# Altium integrated library Linear Technology Operational Amplifiers (LT1000).IntLib: 2280 symbols (part 69 of 79)
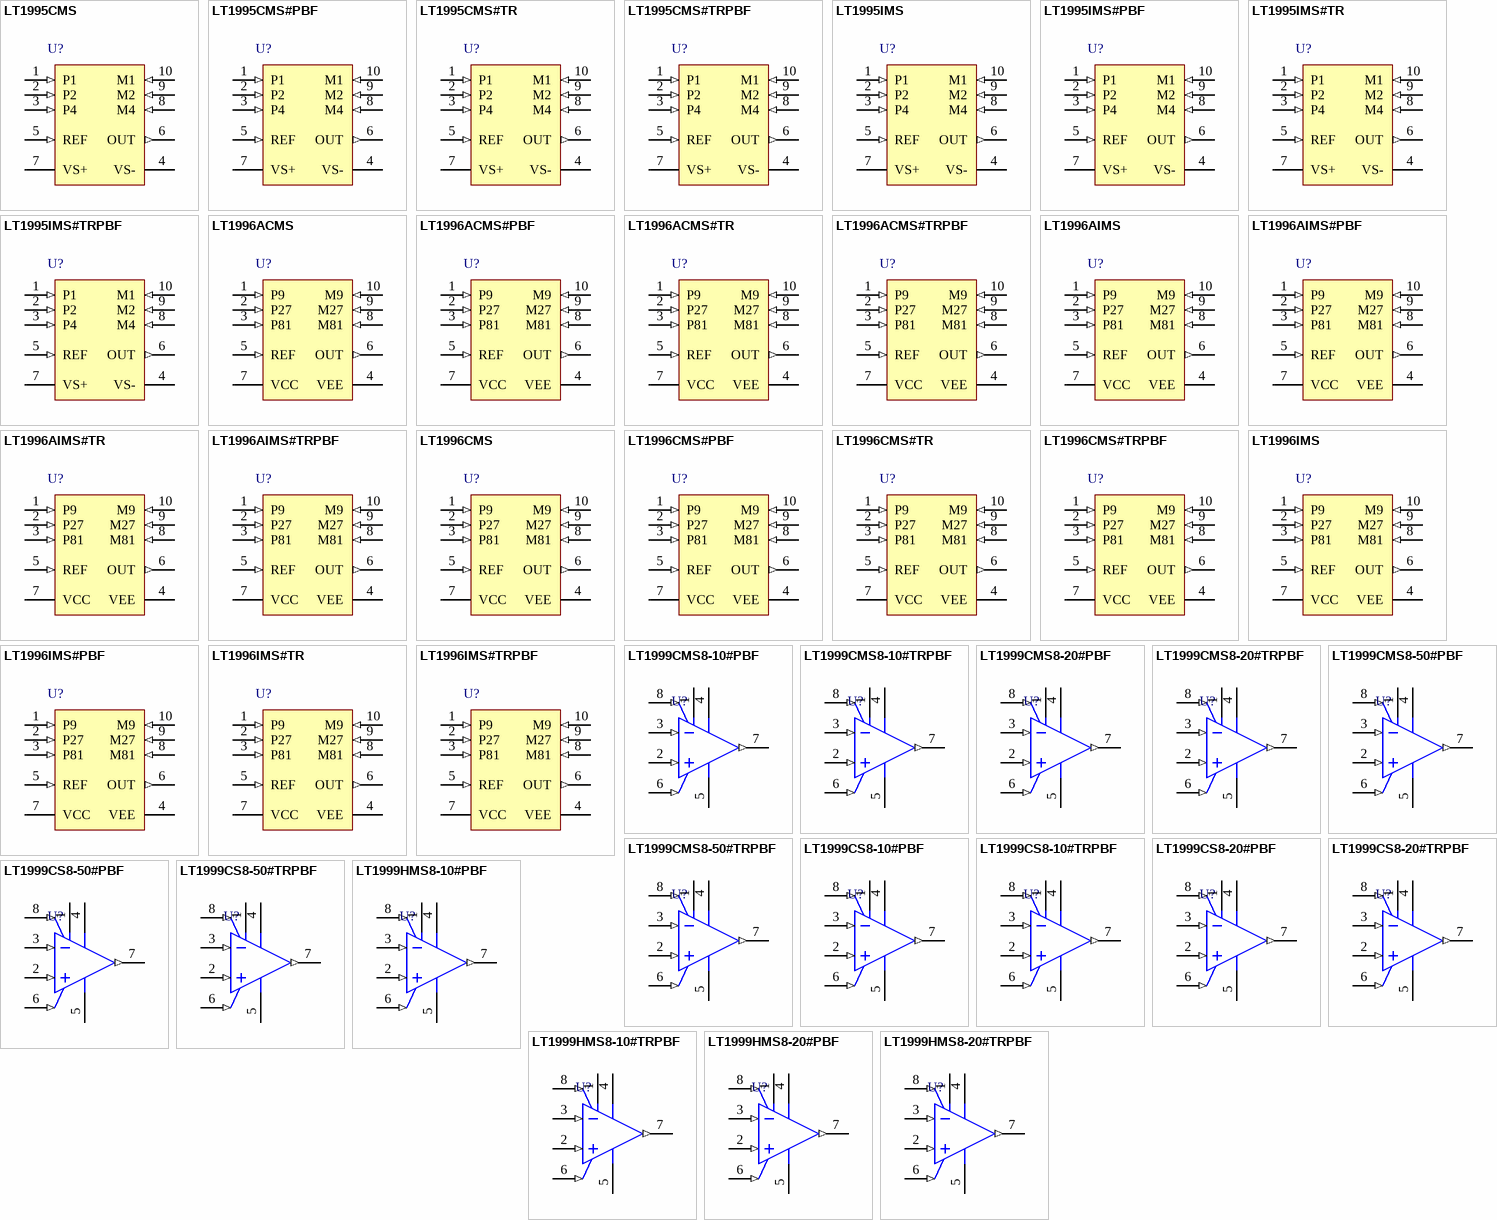
[diagram p173: symbols LT1995CMS to LT1999HMS8-20#TRPBF]

## LT1995CMS#PBF
designator U?
Single Channel, Fast Differential Amplifier Integrated Resistors, 24 MHz Typical GBW, 1000 V/us Typical SR, 2.5 to 36 V, 10-Pin SOP (MS-10), Commercial, Pb-Free; Linear Technology Part Number: LT1995; Manufacturer: Linear Technology; PartNumber: LT1995CMS#PBF; Channels (#): 1; GBW (MHz) Typical: 24; Is (mA) Typical: 6.7; SR (V/us) Typical: 1000; Vos (mV) Guaranteed: 5; Vs Max (V): 36; Vs Min (V): 2.5; DatasheetVersion: Rev. B; PackageVersion: Rev E; PackageReference: LT-MS-10; PackageDescription: 10-Lead Plastic MSOP, Body 3 x 3 mm, Pitch 0.5 mm; Supplier 1: Digi-Key; Supplier Part Number 1: LT1995CMS#PBF-ND; Supplier 2: Farnell; Supplier Part Number 2: 1330737; Supplier 3: Newark; Supplier Part Number 3: 57M7755; RoHS: Pb-Free; Type: SGA; Vos (mV) Typical: 1; Mounting Technology: Surface Mount; ComponentLink1Description: Manufacturer URL; ComponentLink1URL: http://www.linear.com/; ComponentLink2Description: Datasheet; ComponentLink2URL: http://cds.linear.com/docs/en/datasheet/1995fb.pdf; ComponentLink3Description: Package Specification; ComponentLink3URL: http://cds.linear.com/docs/en/packaging/MSOP_10_05-08-1661.pdf
footprint LT-MS-10_N (SOP, 10-Leads, Body 3x3mm, Pitch 0.50mm, IPC Medium Density)
footprint LT-MS-10_L (SOP, 10-Leads, Body 3x3mm, Pitch 0.50mm, IPC High Density)
footprint LT-MS-10_M (SOP, 10-Leads, Body 3x3mm, Pitch 0.50mm, IPC Low Density)
pins: 1 P1 (in) "Noninverting Gain-of-1 Input. Connects a 4k internal resistor to the op amp’s noninverting input.", 2 P2 (in) "Noninverting Gain-of-2 Input. Connects a 2k internal resistor to the op amp’s noninverting input.", 3 P4 (in) "Noninverting Gain-of-4 Input. Connects a 1k internal resistor to the op amp’s noninverting input.", 4 VS- (power) "Negative Supply Voltage.", 5 REF (in) "Reference Voltage. Sets the output level when the difference between the inputs is zero. Connects a 4k internal resistor to the op amp’s non inverting input.", 6 OUT (out) "Output Voltage. VOUT = VREF + 1 • (VP1 - VM1) + 2 • (VP2 - VM2) + 4 • (VP4 - VM4).", 7 VS+ (power) "Positive Supply Voltage.", 8 M4 (in) "Inverting Gain-of-4 Input. Connects a 1k internal resistor to the op amp’s inverting input.", 9 M2 (in) "Inverting Gain-of-2 Input. Connects a 2k internal resistor to the op amp’s inverting input.", 10 M1 (in) "Inverting Gain-of-1 Input. Connects a 4k internal resistor to the op amp’s inverting input."

## LT1995CMS#TR
designator U?
Single Channel, Fast Differential Amplifier, Integrated Resistors, 24 MHz Typical GBW, 1000 V/us Typical SR, 2.5 to 36 V, 10-Pin SOP (MS-10), Commercial, Reel; Linear Technology Part Number: LT1995; Manufacturer: Linear Technology; PartNumber: LT1995CMS#TR; Channels (#): 1; GBW (MHz) Typical: 24; Is (mA) Typical: 6.7; SR (V/us) Typical: 1000; Vos (mV) Guaranteed: 5; Vs Max (V): 36; Vs Min (V): 2.5; DatasheetVersion: Rev. B; PackageVersion: Rev E; PackageReference: LT-MS-10; PackageDescription: 10-Lead Plastic MSOP, Body 3 x 3 mm, Pitch 0.5 mm; Supplier 1: Digi-Key; Supplier Part Number 1: LT1995CMS#TR-ND; Packing: Reel; Type: SGA; Vos (mV) Typical: 1; Mounting Technology: Surface Mount; ComponentLink1Description: Manufacturer URL; ComponentLink1URL: http://www.linear.com/; ComponentLink2Description: Datasheet; ComponentLink2URL: http://cds.linear.com/docs/en/datasheet/1995fb.pdf; ComponentLink3Description: Package Specification; ComponentLink3URL: http://cds.linear.com/docs/en/packaging/MSOP_10_05-08-1661.pdf
footprint LT-MS-10_N (SOP, 10-Leads, Body 3x3mm, Pitch 0.50mm, IPC Medium Density)
footprint LT-MS-10_L (SOP, 10-Leads, Body 3x3mm, Pitch 0.50mm, IPC High Density)
footprint LT-MS-10_M (SOP, 10-Leads, Body 3x3mm, Pitch 0.50mm, IPC Low Density)
pins: 1 P1 (in) "Noninverting Gain-of-1 Input. Connects a 4k internal resistor to the op amp’s noninverting input.", 2 P2 (in) "Noninverting Gain-of-2 Input. Connects a 2k internal resistor to the op amp’s noninverting input.", 3 P4 (in) "Noninverting Gain-of-4 Input. Connects a 1k internal resistor to the op amp’s noninverting input.", 4 VS- (power) "Negative Supply Voltage.", 5 REF (in) "Reference Voltage. Sets the output level when the difference between the inputs is zero. Connects a 4k internal resistor to the op amp’s non inverting input.", 6 OUT (out) "Output Voltage. VOUT = VREF + 1 • (VP1 - VM1) + 2 • (VP2 - VM2) + 4 • (VP4 - VM4).", 7 VS+ (power) "Positive Supply Voltage.", 8 M4 (in) "Inverting Gain-of-4 Input. Connects a 1k internal resistor to the op amp’s inverting input.", 9 M2 (in) "Inverting Gain-of-2 Input. Connects a 2k internal resistor to the op amp’s inverting input.", 10 M1 (in) "Inverting Gain-of-1 Input. Connects a 4k internal resistor to the op amp’s inverting input."

## LT1995CMS#TRPBF
designator U?
Single Channel, Fast Differential Amplifier Integrated Resistors, 24 MHz Typical GBW, 1000 V/us Typical SR, 2.5 to 36 V, 10-Pin SOP (MS-10), Commercial, Pb-Free, Reel; Linear Technology Part Number: LT1995; Manufacturer: Linear Technology; PartNumber: LT1995CMS#TRPBF; Channels (#): 1; GBW (MHz) Typical: 24; Is (mA) Typical: 6.7; SR (V/us) Typical: 1000; Vos (mV) Guaranteed: 5; Vs Max (V): 36; Vs Min (V): 2.5; DatasheetVersion: Rev. B; PackageVersion: Rev E; PackageReference: LT-MS-10; PackageDescription: 10-Lead Plastic MSOP, Body 3 x 3 mm, Pitch 0.5 mm; Supplier 1: Digi-Key; Supplier Part Number 1: LT1995CMS#TRPBF-ND; Packing: Reel; RoHS: Pb-Free; Type: SGA; Vos (mV) Typical: 1; Mounting Technology: Surface Mount; ComponentLink1Description: Manufacturer URL; ComponentLink1URL: http://www.linear.com/; ComponentLink2Description: Datasheet; ComponentLink2URL: http://cds.linear.com/docs/en/datasheet/1995fb.pdf; ComponentLink3Description: Package Specification; ComponentLink3URL: http://cds.linear.com/docs/en/packaging/MSOP_10_05-08-1661.pdf
footprint LT-MS-10_N (SOP, 10-Leads, Body 3x3mm, Pitch 0.50mm, IPC Medium Density)
footprint LT-MS-10_L (SOP, 10-Leads, Body 3x3mm, Pitch 0.50mm, IPC High Density)
footprint LT-MS-10_M (SOP, 10-Leads, Body 3x3mm, Pitch 0.50mm, IPC Low Density)
pins: 1 P1 (in) "Noninverting Gain-of-1 Input. Connects a 4k internal resistor to the op amp’s noninverting input.", 2 P2 (in) "Noninverting Gain-of-2 Input. Connects a 2k internal resistor to the op amp’s noninverting input.", 3 P4 (in) "Noninverting Gain-of-4 Input. Connects a 1k internal resistor to the op amp’s noninverting input.", 4 VS- (power) "Negative Supply Voltage.", 5 REF (in) "Reference Voltage. Sets the output level when the difference between the inputs is zero. Connects a 4k internal resistor to the op amp’s non inverting input.", 6 OUT (out) "Output Voltage. VOUT = VREF + 1 • (VP1 - VM1) + 2 • (VP2 - VM2) + 4 • (VP4 - VM4).", 7 VS+ (power) "Positive Supply Voltage.", 8 M4 (in) "Inverting Gain-of-4 Input. Connects a 1k internal resistor to the op amp’s inverting input.", 9 M2 (in) "Inverting Gain-of-2 Input. Connects a 2k internal resistor to the op amp’s inverting input.", 10 M1 (in) "Inverting Gain-of-1 Input. Connects a 4k internal resistor to the op amp’s inverting input."

## LT1995IMS
designator U?
Single Channel, Fast Differential Amplifier, Integrated Resistors, 24 MHz Typical GBW, 1000 V/us Typical SR, 2.5 to 36 V, 10-Pin SOP (MS-10), Industrial; Linear Technology Part Number: LT1995; Manufacturer: Linear Technology; PartNumber: LT1995IMS; Channels (#): 1; GBW (MHz) Typical: 24; Is (mA) Typical: 6.7; SR (V/us) Typical: 1000; Vos (mV) Guaranteed: 5; Vs Max (V): 36; Vs Min (V): 2.5; DatasheetVersion: Rev. B; PackageVersion: Rev E; PackageReference: LT-MS-10; PackageDescription: 10-Lead Plastic MSOP, Body 3 x 3 mm, Pitch 0.5 mm; Supplier 1: Digi-Key; Supplier Part Number 1: LT1995IMS-ND; Supplier 2: Newark; Supplier Part Number 2: 57M7762; Type: SGA; Vos (mV) Typical: 1; Mounting Technology: Surface Mount; ComponentLink1Description: Manufacturer URL; ComponentLink1URL: http://www.linear.com/; ComponentLink2Description: Datasheet; ComponentLink2URL: http://cds.linear.com/docs/en/datasheet/1995fb.pdf; ComponentLink3Description: Package Specification; ComponentLink3URL: http://cds.linear.com/docs/en/packaging/MSOP_10_05-08-1661.pdf
footprint LT-MS-10_N (SOP, 10-Leads, Body 3x3mm, Pitch 0.50mm, IPC Medium Density)
footprint LT-MS-10_L (SOP, 10-Leads, Body 3x3mm, Pitch 0.50mm, IPC High Density)
footprint LT-MS-10_M (SOP, 10-Leads, Body 3x3mm, Pitch 0.50mm, IPC Low Density)
pins: 1 P1 (in) "Noninverting Gain-of-1 Input. Connects a 4k internal resistor to the op amp’s noninverting input.", 2 P2 (in) "Noninverting Gain-of-2 Input. Connects a 2k internal resistor to the op amp’s noninverting input.", 3 P4 (in) "Noninverting Gain-of-4 Input. Connects a 1k internal resistor to the op amp’s noninverting input.", 4 VS- (power) "Negative Supply Voltage.", 5 REF (in) "Reference Voltage. Sets the output level when the difference between the inputs is zero. Connects a 4k internal resistor to the op amp’s non inverting input.", 6 OUT (out) "Output Voltage. VOUT = VREF + 1 • (VP1 - VM1) + 2 • (VP2 - VM2) + 4 • (VP4 - VM4).", 7 VS+ (power) "Positive Supply Voltage.", 8 M4 (in) "Inverting Gain-of-4 Input. Connects a 1k internal resistor to the op amp’s inverting input.", 9 M2 (in) "Inverting Gain-of-2 Input. Connects a 2k internal resistor to the op amp’s inverting input.", 10 M1 (in) "Inverting Gain-of-1 Input. Connects a 4k internal resistor to the op amp’s inverting input."

## LT1995IMS#PBF
designator U?
Single Channel, Fast Differential Amplifier, Integrated Resistors, 24 MHz Typical GBW, 1000 V/us Typical SR, 2.5 to 36 V, 10-Pin SOP (MS-10), Industrial, Pb-Free; Linear Technology Part Number: LT1995; Manufacturer: Linear Technology; PartNumber: LT1995IMS#PBF; Channels (#): 1; GBW (MHz) Typical: 24; Is (mA) Typical: 6.7; SR (V/us) Typical: 1000; Vos (mV) Guaranteed: 5; Vs Max (V): 36; Vs Min (V): 2.5; DatasheetVersion: Rev. B; PackageVersion: Rev E; PackageReference: LT-MS-10; PackageDescription: 10-Lead Plastic MSOP, Body 3 x 3 mm, Pitch 0.5 mm; Supplier 1: Digi-Key; Supplier Part Number 1: LT1995IMS#PBF-ND; Supplier 2: Farnell; Supplier Part Number 2: 2289434; Supplier 3: Newark; Supplier Part Number 3: 57M7763; RoHS: Pb-Free; Type: SGA; Vos (mV) Typical: 1; Mounting Technology: Surface Mount; ComponentLink1Description: Manufacturer URL; ComponentLink1URL: http://www.linear.com/; ComponentLink2Description: Datasheet; ComponentLink2URL: http://cds.linear.com/docs/en/datasheet/1995fb.pdf; ComponentLink3Description: Package Specification; ComponentLink3URL: http://cds.linear.com/docs/en/packaging/MSOP_10_05-08-1661.pdf
footprint LT-MS-10_N (SOP, 10-Leads, Body 3x3mm, Pitch 0.50mm, IPC Medium Density)
footprint LT-MS-10_L (SOP, 10-Leads, Body 3x3mm, Pitch 0.50mm, IPC High Density)
footprint LT-MS-10_M (SOP, 10-Leads, Body 3x3mm, Pitch 0.50mm, IPC Low Density)
pins: 1 P1 (in) "Noninverting Gain-of-1 Input. Connects a 4k internal resistor to the op amp’s noninverting input.", 2 P2 (in) "Noninverting Gain-of-2 Input. Connects a 2k internal resistor to the op amp’s noninverting input.", 3 P4 (in) "Noninverting Gain-of-4 Input. Connects a 1k internal resistor to the op amp’s noninverting input.", 4 VS- (power) "Negative Supply Voltage.", 5 REF (in) "Reference Voltage. Sets the output level when the difference between the inputs is zero. Connects a 4k internal resistor to the op amp’s non inverting input.", 6 OUT (out) "Output Voltage. VOUT = VREF + 1 • (VP1 - VM1) + 2 • (VP2 - VM2) + 4 • (VP4 - VM4).", 7 VS+ (power) "Positive Supply Voltage.", 8 M4 (in) "Inverting Gain-of-4 Input. Connects a 1k internal resistor to the op amp’s inverting input.", 9 M2 (in) "Inverting Gain-of-2 Input. Connects a 2k internal resistor to the op amp’s inverting input.", 10 M1 (in) "Inverting Gain-of-1 Input. Connects a 4k internal resistor to the op amp’s inverting input."

## LT1995IMS#TR
designator U?
Single Channel, Fast Differential Amplifier, Integrated Resistors, 24 MHz Typical GBW, 1000 V/us Typical SR, 2.5 to 36 V, 10-Pin SOP (MS-10), Industrial, Reel; Linear Technology Part Number: LT1995; Manufacturer: Linear Technology; PartNumber: LT1995IMS#TR; Channels (#): 1; GBW (MHz) Typical: 24; Is (mA) Typical: 6.7; SR (V/us) Typical: 1000; Vos (mV) Guaranteed: 5; Vs Max (V): 36; Vs Min (V): 2.5; DatasheetVersion: Rev. B; PackageVersion: Rev E; PackageReference: LT-MS-10; PackageDescription: 10-Lead Plastic MSOP, Body 3 x 3 mm, Pitch 0.5 mm; Supplier 1: Digi-Key; Supplier Part Number 1: LT1995IMS#TR-ND; Packing: Reel; Type: SGA; Vos (mV) Typical: 1; Mounting Technology: Surface Mount; ComponentLink1Description: Manufacturer URL; ComponentLink1URL: http://www.linear.com/; ComponentLink2Description: Datasheet; ComponentLink2URL: http://cds.linear.com/docs/en/datasheet/1995fb.pdf; ComponentLink3Description: Package Specification; ComponentLink3URL: http://cds.linear.com/docs/en/packaging/MSOP_10_05-08-1661.pdf
footprint LT-MS-10_N (SOP, 10-Leads, Body 3x3mm, Pitch 0.50mm, IPC Medium Density)
footprint LT-MS-10_L (SOP, 10-Leads, Body 3x3mm, Pitch 0.50mm, IPC High Density)
footprint LT-MS-10_M (SOP, 10-Leads, Body 3x3mm, Pitch 0.50mm, IPC Low Density)
pins: 1 P1 (in) "Noninverting Gain-of-1 Input. Connects a 4k internal resistor to the op amp’s noninverting input.", 2 P2 (in) "Noninverting Gain-of-2 Input. Connects a 2k internal resistor to the op amp’s noninverting input.", 3 P4 (in) "Noninverting Gain-of-4 Input. Connects a 1k internal resistor to the op amp’s noninverting input.", 4 VS- (power) "Negative Supply Voltage.", 5 REF (in) "Reference Voltage. Sets the output level when the difference between the inputs is zero. Connects a 4k internal resistor to the op amp’s non inverting input.", 6 OUT (out) "Output Voltage. VOUT = VREF + 1 • (VP1 - VM1) + 2 • (VP2 - VM2) + 4 • (VP4 - VM4).", 7 VS+ (power) "Positive Supply Voltage.", 8 M4 (in) "Inverting Gain-of-4 Input. Connects a 1k internal resistor to the op amp’s inverting input.", 9 M2 (in) "Inverting Gain-of-2 Input. Connects a 2k internal resistor to the op amp’s inverting input.", 10 M1 (in) "Inverting Gain-of-1 Input. Connects a 4k internal resistor to the op amp’s inverting input."

## LT1995IMS#TRPBF
designator U?
Single Channel, Fast Differential Amplifier, Integrated Resistors, 24 MHz Typical GBW, 1000 V/us Typical SR, 2.5 to 36 V, 10-Pin SOP (MS-10), Industrial, Pb-Free, Reel; Linear Technology Part Number: LT1995; Manufacturer: Linear Technology; PartNumber: LT1995IMS#TRPBF; Channels (#): 1; GBW (MHz) Typical: 24; Is (mA) Typical: 6.7; SR (V/us) Typical: 1000; Vos (mV) Guaranteed: 5; Vs Max (V): 36; Vs Min (V): 2.5; DatasheetVersion: Rev. B; PackageVersion: Rev E; PackageReference: LT-MS-10; PackageDescription: 10-Lead Plastic MSOP, Body 3 x 3 mm, Pitch 0.5 mm; Supplier 1: Digi-Key; Supplier Part Number 1: LT1995IMS#TRPBF-ND; Packing: Reel; RoHS: Pb-Free; Type: SGA; Vos (mV) Typical: 1; Mounting Technology: Surface Mount; ComponentLink1Description: Manufacturer URL; ComponentLink1URL: http://www.linear.com/; ComponentLink2Description: Datasheet; ComponentLink2URL: http://cds.linear.com/docs/en/datasheet/1995fb.pdf; ComponentLink3Description: Package Specification; ComponentLink3URL: http://cds.linear.com/docs/en/packaging/MSOP_10_05-08-1661.pdf
footprint LT-MS-10_N (SOP, 10-Leads, Body 3x3mm, Pitch 0.50mm, IPC Medium Density)
footprint LT-MS-10_L (SOP, 10-Leads, Body 3x3mm, Pitch 0.50mm, IPC High Density)
footprint LT-MS-10_M (SOP, 10-Leads, Body 3x3mm, Pitch 0.50mm, IPC Low Density)
pins: 1 P1 (in) "Noninverting Gain-of-1 Input. Connects a 4k internal resistor to the op amp’s noninverting input.", 2 P2 (in) "Noninverting Gain-of-2 Input. Connects a 2k internal resistor to the op amp’s noninverting input.", 3 P4 (in) "Noninverting Gain-of-4 Input. Connects a 1k internal resistor to the op amp’s noninverting input.", 4 VS- (power) "Negative Supply Voltage.", 5 REF (in) "Reference Voltage. Sets the output level when the difference between the inputs is zero. Connects a 4k internal resistor to the op amp’s non inverting input.", 6 OUT (out) "Output Voltage. VOUT = VREF + 1 • (VP1 - VM1) + 2 • (VP2 - VM2) + 4 • (VP4 - VM4).", 7 VS+ (power) "Positive Supply Voltage.", 8 M4 (in) "Inverting Gain-of-4 Input. Connects a 1k internal resistor to the op amp’s inverting input.", 9 M2 (in) "Inverting Gain-of-2 Input. Connects a 2k internal resistor to the op amp’s inverting input.", 10 M1 (in) "Inverting Gain-of-1 Input. Connects a 4k internal resistor to the op amp’s inverting input."

## LT1996ACMS
designator U?
Single Channel, Precision, Gain Selectable Amplifier, Av = 9 to 117, 0.56 MHz Typical GBW, 0.12 V/us Typical SR, 2.7 to 36 V, 10-Pin SOP (MS-10), Commercial; Linear Technology Part Number: LT1996; Manufacturer: Linear Technology; PartNumber: LT1996ACMS; Channels (#): 1; GBW (MHz) Typical: 0.56; Is (mA) Typical: 0.1; SR (V/us) Typical: 0.12; Vos (mV) Guaranteed: 0.05; Vos (mV) Typical: 0.015; Vs Max (V): 36; Vs Min (V): 2.7; PackageVersion: Rev E; PackageReference: LT-MS-10; PackageDescription: 10-Lead Plastic MSOP, Body 3 x 3 mm, Pitch 0.5 mm; Type: SGA; Mounting Technology: Surface Mount; ComponentLink1Description: Manufacturer URL; ComponentLink1URL: http://www.linear.com/; ComponentLink2Description: Datasheet; ComponentLink2URL: http://cds.linear.com/docs/en/datasheet/1996f.pdf; ComponentLink3Description: Package Specification; ComponentLink3URL: http://cds.linear.com/docs/en/packaging/MSOP_10_05-08-1661.pdf
footprint LT-MS-10_N (SOP, 10-Leads, Body 3x3mm, Pitch 0.50mm, IPC Medium Density)
footprint LT-MS-10_L (SOP, 10-Leads, Body 3x3mm, Pitch 0.50mm, IPC High Density)
footprint LT-MS-10_M (SOP, 10-Leads, Body 3x3mm, Pitch 0.50mm, IPC Low Density)
pins: 1 P9 (in) "Noninverting Gain-of-9 input. Connects a 50k internal resistor to the op amp’s noninverting input.", 2 P27 (in) "Noninverting Gain-of-27 input. Connects a (50k/3) internal resistor to the op amp’s noninverting input.", 3 P81 (in) "Noninverting Gain-of-81 input. Connects a (50k/9) internal resistor to the op amp’s noninverting input.", 4 VEE (power) "Negative Power Supply. Can be either ground (in single supply applications), or a negative voltage (in split supply applications).", 5 REF (in) "Reference Input. Sets the output level when difference between inputs is zero. Connects a 450k internal resistor to the op amp’s noninverting input.", 6 OUT (out) "Output. VOUT = VREF + 9 * (VP1 - VM1) + 27 *(VP3 - VM3) + 81 * (VP9 - VM9).", 7 VCC (power) "Positive Power Supply. Can be anything from 2.7V to 36V above the VEE voltage.", 8 M81 (in) "Inverting Gain-of-81 input. Connects a (50k/9) internal resistor to the op amp’s inverting input.", 9 M27 (in) "Inverting Gain-of-27 input. Connects a (50k/3) internal resistor to the op amp’s inverting input.", 10 M9 (in) "Inverting Gain-of-9 input. Connects a 50k internal resistor to the op amp’s inverting input."

## LT1996ACMS#PBF
designator U?
Single Channel, Precision, Gain Selectable Amplifier, Av = 9 to 117, 0.56 MHz Typical GBW, 0.12 V/us Typical SR, 2.7 to 36 V, 10-Pin SOP (MS-10), Commercial, Pb-Free; Linear Technology Part Number: LT1996; Manufacturer: Linear Technology; PartNumber: LT1996ACMS#PBF; Channels (#): 1; GBW (MHz) Typical: 0.56; Is (mA) Typical: 0.1; SR (V/us) Typical: 0.12; Vos (mV) Guaranteed: 0.05; Vos (mV) Typical: 0.015; Vs Max (V): 36; Vs Min (V): 2.7; PackageVersion: Rev E; PackageReference: LT-MS-10; PackageDescription: 10-Lead Plastic MSOP, Body 3 x 3 mm, Pitch 0.5 mm; Supplier 1: Digi-Key; Supplier Part Number 1: LT1996ACMS#PBF-ND; Supplier 2: Farnell; Supplier Part Number 2: 1462130; Supplier 3: Newark; Supplier Part Number 3: 75M4679; RoHS: Pb-Free; Type: SGA; Mounting Technology: Surface Mount; ComponentLink1Description: Manufacturer URL; ComponentLink1URL: http://www.linear.com/; ComponentLink2Description: Datasheet; ComponentLink2URL: http://cds.linear.com/docs/en/datasheet/1996f.pdf; ComponentLink3Description: Package Specification; ComponentLink3URL: http://cds.linear.com/docs/en/packaging/MSOP_10_05-08-1661.pdf
footprint LT-MS-10_N (SOP, 10-Leads, Body 3x3mm, Pitch 0.50mm, IPC Medium Density)
footprint LT-MS-10_L (SOP, 10-Leads, Body 3x3mm, Pitch 0.50mm, IPC High Density)
footprint LT-MS-10_M (SOP, 10-Leads, Body 3x3mm, Pitch 0.50mm, IPC Low Density)
pins: 1 P9 (in) "Noninverting Gain-of-9 input. Connects a 50k internal resistor to the op amp’s noninverting input.", 2 P27 (in) "Noninverting Gain-of-27 input. Connects a (50k/3) internal resistor to the op amp’s noninverting input.", 3 P81 (in) "Noninverting Gain-of-81 input. Connects a (50k/9) internal resistor to the op amp’s noninverting input.", 4 VEE (power) "Negative Power Supply. Can be either ground (in single supply applications), or a negative voltage (in split supply applications).", 5 REF (in) "Reference Input. Sets the output level when difference between inputs is zero. Connects a 450k internal resistor to the op amp’s noninverting input.", 6 OUT (out) "Output. VOUT = VREF + 9 * (VP1 - VM1) + 27 *(VP3 - VM3) + 81 * (VP9 - VM9).", 7 VCC (power) "Positive Power Supply. Can be anything from 2.7V to 36V above the VEE voltage.", 8 M81 (in) "Inverting Gain-of-81 input. Connects a (50k/9) internal resistor to the op amp’s inverting input.", 9 M27 (in) "Inverting Gain-of-27 input. Connects a (50k/3) internal resistor to the op amp’s inverting input.", 10 M9 (in) "Inverting Gain-of-9 input. Connects a 50k internal resistor to the op amp’s inverting input."

## LT1996ACMS#TR
designator U?
Single Channel, Precision, Gain Selectable Amplifier, Av = 9 to 117, 0.56 MHz Typical GBW, 0.12 V/us Typical SR, 2.7 to 36 V, 10-Pin SOP (MS-10), Commercial, Reel; Linear Technology Part Number: LT1996; Manufacturer: Linear Technology; PartNumber: LT1996ACMS#TR; Channels (#): 1; GBW (MHz) Typical: 0.56; Is (mA) Typical: 0.1; SR (V/us) Typical: 0.12; Vos (mV) Guaranteed: 0.05; Vos (mV) Typical: 0.015; Vs Max (V): 36; Vs Min (V): 2.7; PackageVersion: Rev E; PackageReference: LT-MS-10; PackageDescription: 10-Lead Plastic MSOP, Body 3 x 3 mm, Pitch 0.5 mm; Packing: Reel; Type: SGA; Mounting Technology: Surface Mount; ComponentLink1Description: Manufacturer URL; ComponentLink1URL: http://www.linear.com/; ComponentLink2Description: Datasheet; ComponentLink2URL: http://cds.linear.com/docs/en/datasheet/1996f.pdf; ComponentLink3Description: Package Specification; ComponentLink3URL: http://cds.linear.com/docs/en/packaging/MSOP_10_05-08-1661.pdf
footprint LT-MS-10_N (SOP, 10-Leads, Body 3x3mm, Pitch 0.50mm, IPC Medium Density)
footprint LT-MS-10_L (SOP, 10-Leads, Body 3x3mm, Pitch 0.50mm, IPC High Density)
footprint LT-MS-10_M (SOP, 10-Leads, Body 3x3mm, Pitch 0.50mm, IPC Low Density)
pins: 1 P9 (in) "Noninverting Gain-of-9 input. Connects a 50k internal resistor to the op amp’s noninverting input.", 2 P27 (in) "Noninverting Gain-of-27 input. Connects a (50k/3) internal resistor to the op amp’s noninverting input.", 3 P81 (in) "Noninverting Gain-of-81 input. Connects a (50k/9) internal resistor to the op amp’s noninverting input.", 4 VEE (power) "Negative Power Supply. Can be either ground (in single supply applications), or a negative voltage (in split supply applications).", 5 REF (in) "Reference Input. Sets the output level when difference between inputs is zero. Connects a 450k internal resistor to the op amp’s noninverting input.", 6 OUT (out) "Output. VOUT = VREF + 9 * (VP1 - VM1) + 27 *(VP3 - VM3) + 81 * (VP9 - VM9).", 7 VCC (power) "Positive Power Supply. Can be anything from 2.7V to 36V above the VEE voltage.", 8 M81 (in) "Inverting Gain-of-81 input. Connects a (50k/9) internal resistor to the op amp’s inverting input.", 9 M27 (in) "Inverting Gain-of-27 input. Connects a (50k/3) internal resistor to the op amp’s inverting input.", 10 M9 (in) "Inverting Gain-of-9 input. Connects a 50k internal resistor to the op amp’s inverting input."

## LT1996ACMS#TRPBF
designator U?
Single Channel, Precision, Gain Selectable Amplifier, Av = 9 to 117, 0.56 MHz Typical GBW, 0.12 V/us Typical SR, 2.7 to 36 V, 10-Pin SOP (MS-10), Commercial, Pb-Free, Reel; Linear Technology Part Number: LT1996; Manufacturer: Linear Technology; PartNumber: LT1996ACMS#TRPBF; Channels (#): 1; GBW (MHz) Typical: 0.56; Is (mA) Typical: 0.1; SR (V/us) Typical: 0.12; Vos (mV) Guaranteed: 0.05; Vos (mV) Typical: 0.015; Vs Max (V): 36; Vs Min (V): 2.7; PackageVersion: Rev E; PackageReference: LT-MS-10; PackageDescription: 10-Lead Plastic MSOP, Body 3 x 3 mm, Pitch 0.5 mm; Supplier 1: Digi-Key; Supplier Part Number 1: LT1996ACMS#TRPBF-ND; Packing: Reel; RoHS: Pb-Free; Type: SGA; Mounting Technology: Surface Mount; ComponentLink1Description: Manufacturer URL; ComponentLink1URL: http://www.linear.com/; ComponentLink2Description: Datasheet; ComponentLink2URL: http://cds.linear.com/docs/en/datasheet/1996f.pdf; ComponentLink3Description: Package Specification; ComponentLink3URL: http://cds.linear.com/docs/en/packaging/MSOP_10_05-08-1661.pdf
footprint LT-MS-10_N (SOP, 10-Leads, Body 3x3mm, Pitch 0.50mm, IPC Medium Density)
footprint LT-MS-10_L (SOP, 10-Leads, Body 3x3mm, Pitch 0.50mm, IPC High Density)
footprint LT-MS-10_M (SOP, 10-Leads, Body 3x3mm, Pitch 0.50mm, IPC Low Density)
pins: 1 P9 (in) "Noninverting Gain-of-9 input. Connects a 50k internal resistor to the op amp’s noninverting input.", 2 P27 (in) "Noninverting Gain-of-27 input. Connects a (50k/3) internal resistor to the op amp’s noninverting input.", 3 P81 (in) "Noninverting Gain-of-81 input. Connects a (50k/9) internal resistor to the op amp’s noninverting input.", 4 VEE (power) "Negative Power Supply. Can be either ground (in single supply applications), or a negative voltage (in split supply applications).", 5 REF (in) "Reference Input. Sets the output level when difference between inputs is zero. Connects a 450k internal resistor to the op amp’s noninverting input.", 6 OUT (out) "Output. VOUT = VREF + 9 * (VP1 - VM1) + 27 *(VP3 - VM3) + 81 * (VP9 - VM9).", 7 VCC (power) "Positive Power Supply. Can be anything from 2.7V to 36V above the VEE voltage.", 8 M81 (in) "Inverting Gain-of-81 input. Connects a (50k/9) internal resistor to the op amp’s inverting input.", 9 M27 (in) "Inverting Gain-of-27 input. Connects a (50k/3) internal resistor to the op amp’s inverting input.", 10 M9 (in) "Inverting Gain-of-9 input. Connects a 50k internal resistor to the op amp’s inverting input."

## LT1996AIMS
designator U?
Single Channel, Precision, Gain Selectable Amplifier, Av = 9 to 117, 0.56 MHz Typical GBW, 0.12 V/us Typical SR, 2.7 to 36 V, 10-Pin SOP (MS-10), Industrial; Linear Technology Part Number: LT1996; Manufacturer: Linear Technology; PartNumber: LT1996AIMS; Channels (#): 1; GBW (MHz) Typical: 0.56; Is (mA) Typical: 0.1; SR (V/us) Typical: 0.12; Vos (mV) Guaranteed: 0.05; Vos (mV) Typical: 0.015; Vs Max (V): 36; Vs Min (V): 2.7; PackageVersion: Rev E; PackageReference: LT-MS-10; PackageDescription: 10-Lead Plastic MSOP, Body 3 x 3 mm, Pitch 0.5 mm; Type: SGA; Mounting Technology: Surface Mount; ComponentLink1Description: Manufacturer URL; ComponentLink1URL: http://www.linear.com/; ComponentLink2Description: Datasheet; ComponentLink2URL: http://cds.linear.com/docs/en/datasheet/1996f.pdf; ComponentLink3Description: Package Specification; ComponentLink3URL: http://cds.linear.com/docs/en/packaging/MSOP_10_05-08-1661.pdf
footprint LT-MS-10_N (SOP, 10-Leads, Body 3x3mm, Pitch 0.50mm, IPC Medium Density)
footprint LT-MS-10_L (SOP, 10-Leads, Body 3x3mm, Pitch 0.50mm, IPC High Density)
footprint LT-MS-10_M (SOP, 10-Leads, Body 3x3mm, Pitch 0.50mm, IPC Low Density)
pins: 1 P9 (in) "Noninverting Gain-of-9 input. Connects a 50k internal resistor to the op amp’s noninverting input.", 2 P27 (in) "Noninverting Gain-of-27 input. Connects a (50k/3) internal resistor to the op amp’s noninverting input.", 3 P81 (in) "Noninverting Gain-of-81 input. Connects a (50k/9) internal resistor to the op amp’s noninverting input.", 4 VEE (power) "Negative Power Supply. Can be either ground (in single supply applications), or a negative voltage (in split supply applications).", 5 REF (in) "Reference Input. Sets the output level when difference between inputs is zero. Connects a 450k internal resistor to the op amp’s noninverting input.", 6 OUT (out) "Output. VOUT = VREF + 9 * (VP1 - VM1) + 27 *(VP3 - VM3) + 81 * (VP9 - VM9).", 7 VCC (power) "Positive Power Supply. Can be anything from 2.7V to 36V above the VEE voltage.", 8 M81 (in) "Inverting Gain-of-81 input. Connects a (50k/9) internal resistor to the op amp’s inverting input.", 9 M27 (in) "Inverting Gain-of-27 input. Connects a (50k/3) internal resistor to the op amp’s inverting input.", 10 M9 (in) "Inverting Gain-of-9 input. Connects a 50k internal resistor to the op amp’s inverting input."

## LT1996AIMS#PBF
designator U?
Single Channel, Precision, Gain Selectable Amplifier, Av = 9 to 117, 0.56 MHz Typical GBW, 0.12 V/us Typical SR, 2.7 to 36 V, 10-Pin SOP (MS-10), Industrial, Pb-Free; Linear Technology Part Number: LT1996; Manufacturer: Linear Technology; PartNumber: LT1996AIMS#PBF; Channels (#): 1; GBW (MHz) Typical: 0.56; Is (mA) Typical: 0.1; SR (V/us) Typical: 0.12; Vos (mV) Guaranteed: 0.05; Vos (mV) Typical: 0.015; Vs Max (V): 36; Vs Min (V): 2.7; PackageVersion: Rev E; PackageReference: LT-MS-10; PackageDescription: 10-Lead Plastic MSOP, Body 3 x 3 mm, Pitch 0.5 mm; Supplier 1: Digi-Key; Supplier Part Number 1: LT1996AIMS#PBF-ND; Supplier 2: Newark; Supplier Part Number 2: 75M4687; RoHS: Pb-Free; Type: SGA; Mounting Technology: Surface Mount; ComponentLink1Description: Manufacturer URL; ComponentLink1URL: http://www.linear.com/; ComponentLink2Description: Datasheet; ComponentLink2URL: http://cds.linear.com/docs/en/datasheet/1996f.pdf; ComponentLink3Description: Package Specification; ComponentLink3URL: http://cds.linear.com/docs/en/packaging/MSOP_10_05-08-1661.pdf
footprint LT-MS-10_N (SOP, 10-Leads, Body 3x3mm, Pitch 0.50mm, IPC Medium Density)
footprint LT-MS-10_L (SOP, 10-Leads, Body 3x3mm, Pitch 0.50mm, IPC High Density)
footprint LT-MS-10_M (SOP, 10-Leads, Body 3x3mm, Pitch 0.50mm, IPC Low Density)
pins: 1 P9 (in) "Noninverting Gain-of-9 input. Connects a 50k internal resistor to the op amp’s noninverting input.", 2 P27 (in) "Noninverting Gain-of-27 input. Connects a (50k/3) internal resistor to the op amp’s noninverting input.", 3 P81 (in) "Noninverting Gain-of-81 input. Connects a (50k/9) internal resistor to the op amp’s noninverting input.", 4 VEE (power) "Negative Power Supply. Can be either ground (in single supply applications), or a negative voltage (in split supply applications).", 5 REF (in) "Reference Input. Sets the output level when difference between inputs is zero. Connects a 450k internal resistor to the op amp’s noninverting input.", 6 OUT (out) "Output. VOUT = VREF + 9 * (VP1 - VM1) + 27 *(VP3 - VM3) + 81 * (VP9 - VM9).", 7 VCC (power) "Positive Power Supply. Can be anything from 2.7V to 36V above the VEE voltage.", 8 M81 (in) "Inverting Gain-of-81 input. Connects a (50k/9) internal resistor to the op amp’s inverting input.", 9 M27 (in) "Inverting Gain-of-27 input. Connects a (50k/3) internal resistor to the op amp’s inverting input.", 10 M9 (in) "Inverting Gain-of-9 input. Connects a 50k internal resistor to the op amp’s inverting input."

## LT1996AIMS#TR
designator U?
Single Channel, Precision, Gain Selectable Amplifier, Av = 9 to 117, 0.56 MHz Typical GBW, 0.12 V/us Typical SR, 2.7 to 36 V, 10-Pin SOP (MS-10), Industrial, Reel; Linear Technology Part Number: LT1996; Manufacturer: Linear Technology; PartNumber: LT1996AIMS#TR; Channels (#): 1; GBW (MHz) Typical: 0.56; Is (mA) Typical: 0.1; SR (V/us) Typical: 0.12; Vos (mV) Guaranteed: 0.05; Vos (mV) Typical: 0.015; Vs Max (V): 36; Vs Min (V): 2.7; PackageVersion: Rev E; PackageReference: LT-MS-10; PackageDescription: 10-Lead Plastic MSOP, Body 3 x 3 mm, Pitch 0.5 mm; Packing: Reel; Type: SGA; Mounting Technology: Surface Mount; ComponentLink1Description: Manufacturer URL; ComponentLink1URL: http://www.linear.com/; ComponentLink2Description: Datasheet; ComponentLink2URL: http://cds.linear.com/docs/en/datasheet/1996f.pdf; ComponentLink3Description: Package Specification; ComponentLink3URL: http://cds.linear.com/docs/en/packaging/MSOP_10_05-08-1661.pdf
footprint LT-MS-10_N (SOP, 10-Leads, Body 3x3mm, Pitch 0.50mm, IPC Medium Density)
footprint LT-MS-10_L (SOP, 10-Leads, Body 3x3mm, Pitch 0.50mm, IPC High Density)
footprint LT-MS-10_M (SOP, 10-Leads, Body 3x3mm, Pitch 0.50mm, IPC Low Density)
pins: 1 P9 (in) "Noninverting Gain-of-9 input. Connects a 50k internal resistor to the op amp’s noninverting input.", 2 P27 (in) "Noninverting Gain-of-27 input. Connects a (50k/3) internal resistor to the op amp’s noninverting input.", 3 P81 (in) "Noninverting Gain-of-81 input. Connects a (50k/9) internal resistor to the op amp’s noninverting input.", 4 VEE (power) "Negative Power Supply. Can be either ground (in single supply applications), or a negative voltage (in split supply applications).", 5 REF (in) "Reference Input. Sets the output level when difference between inputs is zero. Connects a 450k internal resistor to the op amp’s noninverting input.", 6 OUT (out) "Output. VOUT = VREF + 9 * (VP1 - VM1) + 27 *(VP3 - VM3) + 81 * (VP9 - VM9).", 7 VCC (power) "Positive Power Supply. Can be anything from 2.7V to 36V above the VEE voltage.", 8 M81 (in) "Inverting Gain-of-81 input. Connects a (50k/9) internal resistor to the op amp’s inverting input.", 9 M27 (in) "Inverting Gain-of-27 input. Connects a (50k/3) internal resistor to the op amp’s inverting input.", 10 M9 (in) "Inverting Gain-of-9 input. Connects a 50k internal resistor to the op amp’s inverting input."

## LT1996AIMS#TRPBF
designator U?
Single Channel, Precision, Gain Selectable Amplifier, Av = 9 to 117, 0.56 MHz Typical GBW, 0.12 V/us Typical SR, 2.7 to 36 V, 10-Pin SOP (MS-10), Industrial, Pb-Free, Reel; Linear Technology Part Number: LT1996; Manufacturer: Linear Technology; PartNumber: LT1996AIMS#TRPBF; Channels (#): 1; GBW (MHz) Typical: 0.56; Is (mA) Typical: 0.1; SR (V/us) Typical: 0.12; Vos (mV) Guaranteed: 0.05; Vos (mV) Typical: 0.015; Vs Max (V): 36; Vs Min (V): 2.7; PackageVersion: Rev E; PackageReference: LT-MS-10; PackageDescription: 10-Lead Plastic MSOP, Body 3 x 3 mm, Pitch 0.5 mm; Supplier 1: Digi-Key; Supplier Part Number 1: LT1996AIMS#TRPBF-ND; Packing: Reel; RoHS: Pb-Free; Type: SGA; Mounting Technology: Surface Mount; ComponentLink1Description: Manufacturer URL; ComponentLink1URL: http://www.linear.com/; ComponentLink2Description: Datasheet; ComponentLink2URL: http://cds.linear.com/docs/en/datasheet/1996f.pdf; ComponentLink3Description: Package Specification; ComponentLink3URL: http://cds.linear.com/docs/en/packaging/MSOP_10_05-08-1661.pdf
footprint LT-MS-10_N (SOP, 10-Leads, Body 3x3mm, Pitch 0.50mm, IPC Medium Density)
footprint LT-MS-10_L (SOP, 10-Leads, Body 3x3mm, Pitch 0.50mm, IPC High Density)
footprint LT-MS-10_M (SOP, 10-Leads, Body 3x3mm, Pitch 0.50mm, IPC Low Density)
pins: 1 P9 (in) "Noninverting Gain-of-9 input. Connects a 50k internal resistor to the op amp’s noninverting input.", 2 P27 (in) "Noninverting Gain-of-27 input. Connects a (50k/3) internal resistor to the op amp’s noninverting input.", 3 P81 (in) "Noninverting Gain-of-81 input. Connects a (50k/9) internal resistor to the op amp’s noninverting input.", 4 VEE (power) "Negative Power Supply. Can be either ground (in single supply applications), or a negative voltage (in split supply applications).", 5 REF (in) "Reference Input. Sets the output level when difference between inputs is zero. Connects a 450k internal resistor to the op amp’s noninverting input.", 6 OUT (out) "Output. VOUT = VREF + 9 * (VP1 - VM1) + 27 *(VP3 - VM3) + 81 * (VP9 - VM9).", 7 VCC (power) "Positive Power Supply. Can be anything from 2.7V to 36V above the VEE voltage.", 8 M81 (in) "Inverting Gain-of-81 input. Connects a (50k/9) internal resistor to the op amp’s inverting input.", 9 M27 (in) "Inverting Gain-of-27 input. Connects a (50k/3) internal resistor to the op amp’s inverting input.", 10 M9 (in) "Inverting Gain-of-9 input. Connects a 50k internal resistor to the op amp’s inverting input."

## LT1996CMS
designator U?
Single Channel, Precision, Gain Selectable Amplifier, Av = 9 to 117, 0.56 MHz Typical GBW, 0.12 V/us Typical SR, 2.7 to 36 V, 10-Pin SOP (MS-10), Commercial; Linear Technology Part Number: LT1996; Manufacturer: Linear Technology; PartNumber: LT1996CMS; Channels (#): 1; GBW (MHz) Typical: 0.56; Is (mA) Typical: 0.1; SR (V/us) Typical: 0.12; Vos (mV) Guaranteed: 0.05; Vos (mV) Typical: 0.015; Vs Max (V): 36; Vs Min (V): 2.7; PackageVersion: Rev E; PackageReference: LT-MS-10; PackageDescription: 10-Lead Plastic MSOP, Body 3 x 3 mm, Pitch 0.5 mm; Type: SGA; Mounting Technology: Surface Mount; ComponentLink1Description: Manufacturer URL; ComponentLink1URL: http://www.linear.com/; ComponentLink2Description: Datasheet; ComponentLink2URL: http://cds.linear.com/docs/en/datasheet/1996f.pdf; ComponentLink3Description: Package Specification; ComponentLink3URL: http://cds.linear.com/docs/en/packaging/MSOP_10_05-08-1661.pdf
footprint LT-MS-10_N (SOP, 10-Leads, Body 3x3mm, Pitch 0.50mm, IPC Medium Density)
footprint LT-MS-10_L (SOP, 10-Leads, Body 3x3mm, Pitch 0.50mm, IPC High Density)
footprint LT-MS-10_M (SOP, 10-Leads, Body 3x3mm, Pitch 0.50mm, IPC Low Density)
pins: 1 P9 (in) "Noninverting Gain-of-9 input. Connects a 50k internal resistor to the op amp’s noninverting input.", 2 P27 (in) "Noninverting Gain-of-27 input. Connects a (50k/3) internal resistor to the op amp’s noninverting input.", 3 P81 (in) "Noninverting Gain-of-81 input. Connects a (50k/9) internal resistor to the op amp’s noninverting input.", 4 VEE (power) "Negative Power Supply. Can be either ground (in single supply applications), or a negative voltage (in split supply applications).", 5 REF (in) "Reference Input. Sets the output level when difference between inputs is zero. Connects a 450k internal resistor to the op amp’s noninverting input.", 6 OUT (out) "Output. VOUT = VREF + 9 * (VP1 - VM1) + 27 *(VP3 - VM3) + 81 * (VP9 - VM9).", 7 VCC (power) "Positive Power Supply. Can be anything from 2.7V to 36V above the VEE voltage.", 8 M81 (in) "Inverting Gain-of-81 input. Connects a (50k/9) internal resistor to the op amp’s inverting input.", 9 M27 (in) "Inverting Gain-of-27 input. Connects a (50k/3) internal resistor to the op amp’s inverting input.", 10 M9 (in) "Inverting Gain-of-9 input. Connects a 50k internal resistor to the op amp’s inverting input."

## LT1996CMS#PBF
designator U?
Single Channel, Precision, Gain Selectable Amplifier, Av = 9 to 117, 0.56 MHz Typical GBW, 0.12 V/us Typical SR, 2.7 to 36 V, 10-Pin SOP (MS-10), Commercial, Pb-Free; Linear Technology Part Number: LT1996; Manufacturer: Linear Technology; PartNumber: LT1996CMS#PBF; Channels (#): 1; GBW (MHz) Typical: 0.56; Is (mA) Typical: 0.1; SR (V/us) Typical: 0.12; Vos (mV) Guaranteed: 0.05; Vos (mV) Typical: 0.015; Vs Max (V): 36; Vs Min (V): 2.7; PackageVersion: Rev E; PackageReference: LT-MS-10; PackageDescription: 10-Lead Plastic MSOP, Body 3 x 3 mm, Pitch 0.5 mm; Supplier 1: Digi-Key; Supplier Part Number 1: LT1996CMS#PBF-ND; RoHS: Pb-Free; Type: SGA; Mounting Technology: Surface Mount; ComponentLink1Description: Manufacturer URL; ComponentLink1URL: http://www.linear.com/; ComponentLink2Description: Datasheet; ComponentLink2URL: http://cds.linear.com/docs/en/datasheet/1996f.pdf; ComponentLink3Description: Package Specification; ComponentLink3URL: http://cds.linear.com/docs/en/packaging/MSOP_10_05-08-1661.pdf
footprint LT-MS-10_N (SOP, 10-Leads, Body 3x3mm, Pitch 0.50mm, IPC Medium Density)
footprint LT-MS-10_L (SOP, 10-Leads, Body 3x3mm, Pitch 0.50mm, IPC High Density)
footprint LT-MS-10_M (SOP, 10-Leads, Body 3x3mm, Pitch 0.50mm, IPC Low Density)
pins: 1 P9 (in) "Noninverting Gain-of-9 input. Connects a 50k internal resistor to the op amp’s noninverting input.", 2 P27 (in) "Noninverting Gain-of-27 input. Connects a (50k/3) internal resistor to the op amp’s noninverting input.", 3 P81 (in) "Noninverting Gain-of-81 input. Connects a (50k/9) internal resistor to the op amp’s noninverting input.", 4 VEE (power) "Negative Power Supply. Can be either ground (in single supply applications), or a negative voltage (in split supply applications).", 5 REF (in) "Reference Input. Sets the output level when difference between inputs is zero. Connects a 450k internal resistor to the op amp’s noninverting input.", 6 OUT (out) "Output. VOUT = VREF + 9 * (VP1 - VM1) + 27 *(VP3 - VM3) + 81 * (VP9 - VM9).", 7 VCC (power) "Positive Power Supply. Can be anything from 2.7V to 36V above the VEE voltage.", 8 M81 (in) "Inverting Gain-of-81 input. Connects a (50k/9) internal resistor to the op amp’s inverting input.", 9 M27 (in) "Inverting Gain-of-27 input. Connects a (50k/3) internal resistor to the op amp’s inverting input.", 10 M9 (in) "Inverting Gain-of-9 input. Connects a 50k internal resistor to the op amp’s inverting input."

## LT1996CMS#TR
designator U?
Single Channel, Precision, Gain Selectable Amplifier, Av = 9 to 117, 0.56 MHz Typical GBW, 0.12 V/us Typical SR, 2.7 to 36 V, 10-Pin SOP (MS-10), Commercial, Reel; Linear Technology Part Number: LT1996; Manufacturer: Linear Technology; PartNumber: LT1996CMS#TR; Channels (#): 1; GBW (MHz) Typical: 0.56; Is (mA) Typical: 0.1; SR (V/us) Typical: 0.12; Vos (mV) Guaranteed: 0.05; Vos (mV) Typical: 0.015; Vs Max (V): 36; Vs Min (V): 2.7; PackageVersion: Rev E; PackageReference: LT-MS-10; PackageDescription: 10-Lead Plastic MSOP, Body 3 x 3 mm, Pitch 0.5 mm; Packing: Reel; Type: SGA; Mounting Technology: Surface Mount; ComponentLink1Description: Manufacturer URL; ComponentLink1URL: http://www.linear.com/; ComponentLink2Description: Datasheet; ComponentLink2URL: http://cds.linear.com/docs/en/datasheet/1996f.pdf; ComponentLink3Description: Package Specification; ComponentLink3URL: http://cds.linear.com/docs/en/packaging/MSOP_10_05-08-1661.pdf
footprint LT-MS-10_N (SOP, 10-Leads, Body 3x3mm, Pitch 0.50mm, IPC Medium Density)
footprint LT-MS-10_L (SOP, 10-Leads, Body 3x3mm, Pitch 0.50mm, IPC High Density)
footprint LT-MS-10_M (SOP, 10-Leads, Body 3x3mm, Pitch 0.50mm, IPC Low Density)
pins: 1 P9 (in) "Noninverting Gain-of-9 input. Connects a 50k internal resistor to the op amp’s noninverting input.", 2 P27 (in) "Noninverting Gain-of-27 input. Connects a (50k/3) internal resistor to the op amp’s noninverting input.", 3 P81 (in) "Noninverting Gain-of-81 input. Connects a (50k/9) internal resistor to the op amp’s noninverting input.", 4 VEE (power) "Negative Power Supply. Can be either ground (in single supply applications), or a negative voltage (in split supply applications).", 5 REF (in) "Reference Input. Sets the output level when difference between inputs is zero. Connects a 450k internal resistor to the op amp’s noninverting input.", 6 OUT (out) "Output. VOUT = VREF + 9 * (VP1 - VM1) + 27 *(VP3 - VM3) + 81 * (VP9 - VM9).", 7 VCC (power) "Positive Power Supply. Can be anything from 2.7V to 36V above the VEE voltage.", 8 M81 (in) "Inverting Gain-of-81 input. Connects a (50k/9) internal resistor to the op amp’s inverting input.", 9 M27 (in) "Inverting Gain-of-27 input. Connects a (50k/3) internal resistor to the op amp’s inverting input.", 10 M9 (in) "Inverting Gain-of-9 input. Connects a 50k internal resistor to the op amp’s inverting input."

## LT1996CMS#TRPBF
designator U?
Single Channel, Precision, Gain Selectable Amplifier, Av = 9 to 117, 0.56 MHz Typical GBW, 0.12 V/us Typical SR, 2.7 to 36 V, 10-Pin SOP (MS-10), Commercial, Pb-Free, Reel; Linear Technology Part Number: LT1996; Manufacturer: Linear Technology; PartNumber: LT1996CMS#TRPBF; Channels (#): 1; GBW (MHz) Typical: 0.56; Is (mA) Typical: 0.1; SR (V/us) Typical: 0.12; Vos (mV) Guaranteed: 0.05; Vos (mV) Typical: 0.015; Vs Max (V): 36; Vs Min (V): 2.7; PackageVersion: Rev E; PackageReference: LT-MS-10; PackageDescription: 10-Lead Plastic MSOP, Body 3 x 3 mm, Pitch 0.5 mm; Supplier 1: Digi-Key; Supplier Part Number 1: LT1996CMS#TRPBF-ND; Packing: Reel; RoHS: Pb-Free; Type: SGA; Mounting Technology: Surface Mount; ComponentLink1Description: Manufacturer URL; ComponentLink1URL: http://www.linear.com/; ComponentLink2Description: Datasheet; ComponentLink2URL: http://cds.linear.com/docs/en/datasheet/1996f.pdf; ComponentLink3Description: Package Specification; ComponentLink3URL: http://cds.linear.com/docs/en/packaging/MSOP_10_05-08-1661.pdf
footprint LT-MS-10_N (SOP, 10-Leads, Body 3x3mm, Pitch 0.50mm, IPC Medium Density)
footprint LT-MS-10_L (SOP, 10-Leads, Body 3x3mm, Pitch 0.50mm, IPC High Density)
footprint LT-MS-10_M (SOP, 10-Leads, Body 3x3mm, Pitch 0.50mm, IPC Low Density)
pins: 1 P9 (in) "Noninverting Gain-of-9 input. Connects a 50k internal resistor to the op amp’s noninverting input.", 2 P27 (in) "Noninverting Gain-of-27 input. Connects a (50k/3) internal resistor to the op amp’s noninverting input.", 3 P81 (in) "Noninverting Gain-of-81 input. Connects a (50k/9) internal resistor to the op amp’s noninverting input.", 4 VEE (power) "Negative Power Supply. Can be either ground (in single supply applications), or a negative voltage (in split supply applications).", 5 REF (in) "Reference Input. Sets the output level when difference between inputs is zero. Connects a 450k internal resistor to the op amp’s noninverting input.", 6 OUT (out) "Output. VOUT = VREF + 9 * (VP1 - VM1) + 27 *(VP3 - VM3) + 81 * (VP9 - VM9).", 7 VCC (power) "Positive Power Supply. Can be anything from 2.7V to 36V above the VEE voltage.", 8 M81 (in) "Inverting Gain-of-81 input. Connects a (50k/9) internal resistor to the op amp’s inverting input.", 9 M27 (in) "Inverting Gain-of-27 input. Connects a (50k/3) internal resistor to the op amp’s inverting input.", 10 M9 (in) "Inverting Gain-of-9 input. Connects a 50k internal resistor to the op amp’s inverting input."

## LT1996IMS
designator U?
Single Channel, Precision, Gain Selectable Amplifier, Av = 9 to 117, 0.56 MHz Typical GBW, 0.12 V/us Typical SR, 2.7 to 36 V, 10-Pin SOP (MS-10), Industrial; Linear Technology Part Number: LT1996; Manufacturer: Linear Technology; PartNumber: LT1996IMS; Channels (#): 1; GBW (MHz) Typical: 0.56; Is (mA) Typical: 0.1; SR (V/us) Typical: 0.12; Vos (mV) Guaranteed: 0.05; Vos (mV) Typical: 0.015; Vs Max (V): 36; Vs Min (V): 2.7; PackageVersion: Rev E; PackageReference: LT-MS-10; PackageDescription: 10-Lead Plastic MSOP, Body 3 x 3 mm, Pitch 0.5 mm; Type: SGA; Mounting Technology: Surface Mount; ComponentLink1Description: Manufacturer URL; ComponentLink1URL: http://www.linear.com/; ComponentLink2Description: Datasheet; ComponentLink2URL: http://cds.linear.com/docs/en/datasheet/1996f.pdf; ComponentLink3Description: Package Specification; ComponentLink3URL: http://cds.linear.com/docs/en/packaging/MSOP_10_05-08-1661.pdf
footprint LT-MS-10_N (SOP, 10-Leads, Body 3x3mm, Pitch 0.50mm, IPC Medium Density)
footprint LT-MS-10_L (SOP, 10-Leads, Body 3x3mm, Pitch 0.50mm, IPC High Density)
footprint LT-MS-10_M (SOP, 10-Leads, Body 3x3mm, Pitch 0.50mm, IPC Low Density)
pins: 1 P9 (in) "Noninverting Gain-of-9 input. Connects a 50k internal resistor to the op amp’s noninverting input.", 2 P27 (in) "Noninverting Gain-of-27 input. Connects a (50k/3) internal resistor to the op amp’s noninverting input.", 3 P81 (in) "Noninverting Gain-of-81 input. Connects a (50k/9) internal resistor to the op amp’s noninverting input.", 4 VEE (power) "Negative Power Supply. Can be either ground (in single supply applications), or a negative voltage (in split supply applications).", 5 REF (in) "Reference Input. Sets the output level when difference between inputs is zero. Connects a 450k internal resistor to the op amp’s noninverting input.", 6 OUT (out) "Output. VOUT = VREF + 9 * (VP1 - VM1) + 27 *(VP3 - VM3) + 81 * (VP9 - VM9).", 7 VCC (power) "Positive Power Supply. Can be anything from 2.7V to 36V above the VEE voltage.", 8 M81 (in) "Inverting Gain-of-81 input. Connects a (50k/9) internal resistor to the op amp’s inverting input.", 9 M27 (in) "Inverting Gain-of-27 input. Connects a (50k/3) internal resistor to the op amp’s inverting input.", 10 M9 (in) "Inverting Gain-of-9 input. Connects a 50k internal resistor to the op amp’s inverting input."